# EAGLE library part 40107B (library 40xx)
Dual NAND Gate
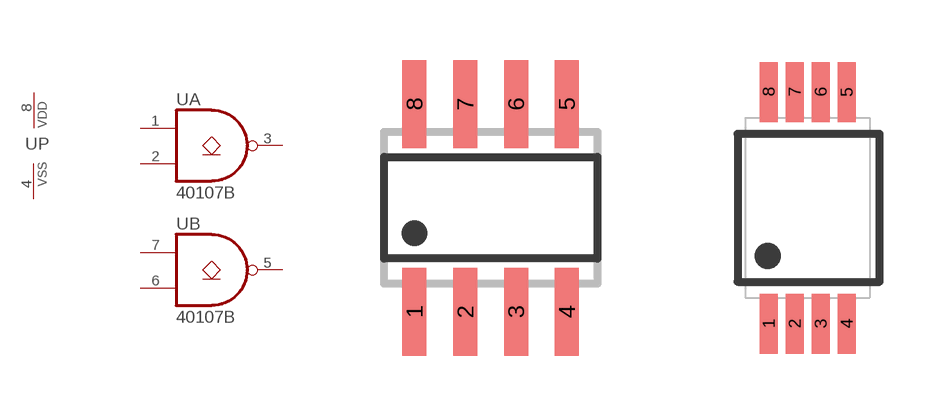
[diagram p85: symbol with the pads of SO08; footprints SO08, TSSOP8]

Designator prefix U; gates A=40107 B=40107 P=PWRN

## 40107BD  [SO08]
1  A:I0  in
2  A:I1  in
3  A:O  out
4  P:VSS  pwr
5  B:O  out
6  B:I1  in
7  B:I0  in
8  P:VDD  pwr

## 40107BPW  [TSSOP8]
Pads as for SO08

## Footprint SO08 (pad centres in mm)
SMALL OUTLINE INTEGRATED CIRCUIT body 3.9 mm/JEDEC MS-012AA
smd 0.6 x 2.2: 1 -1.905,-2.6; 2 -0.635,-2.6; 3 0.635,-2.6; 4 1.905,-2.6; 5 1.905,2.6; 6 0.635,2.6; 7 -0.635,2.6; 8 -1.905,2.6

## Footprint TSSOP8 (pad centres in mm)
Thin Shrink Small Outline Plastic 8
smd 0.45 x 1.5: 1 -0.975,-2.9; 2 -0.325,-2.9; 3 0.325,-2.9; 4 0.975,-2.9; 5 0.975,2.9; 6 0.325,2.9; 7 -0.325,2.9; 8 -0.975,2.9